# Altium schematic symbol library THYRISTOR.SchLib: 1 symbol
Pins are listed as number, name and electrical type; pins without a type are passive.

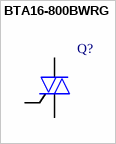
[diagram p0: symbol BTA16-800BWRG]

## BTA16-800BWRG
designator Q?
pins: 1 M1, 2 M2, 3 G